# Altium schematic symbol library PCB_Project1.SCHLIB: 10 symbols
Pins are listed as number, name and electrical type; pins without a type are passive.

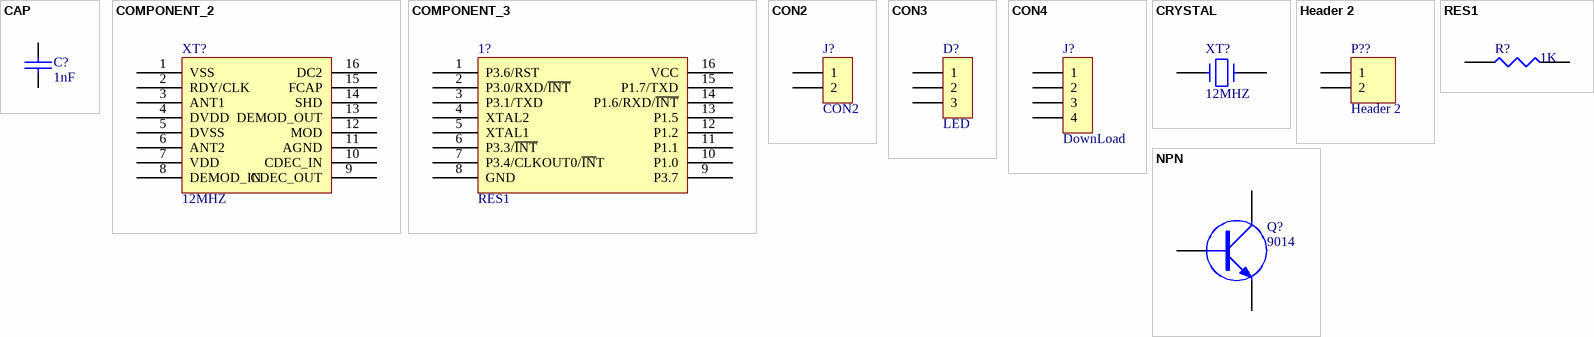
[diagram p0: symbols CAP to RES1]

## CAP
designator C?, comment 1nF
Capacitor
footprint 6-0805[2012]
footprint 0805[2012]
footprint 2012[0805]
pins: 1, 2

## COMPONENT_2
designator XT?, comment 12MHZ
footprint 6-0805[2012]
footprint SOIC16 (Small Outline; 16 Leads; Body Width 3.9 mm; Pitch 1.27 mm)
pins: 1 VSS, 2 RDY/CLK, 3 ANT1, 4 DVDD, 5 DVSS, 6 ANT2, 7 VDD, 8 DEMOD_IN, 9 CDEC_OUT, 10 CDEC_IN, 11 AGND, 12 MOD, 13 DEMOD_OUT, 14 SHD, 15 FCAP, 16 DC2

## COMPONENT_3
designator 1?, comment RES1
footprint 6-0805[2012]
footprint DIP-16 (DIP; 16 Leads; Row Spacing 7.62 mm; Pitch 2.54 mm)
pins: 1 P3.6/RST, 2 P3.0/RXD/~{INT}, 3 P3.1/TXD, 4 XTAL2, 5 XTAL1, 6 P3.3/~{INT}, 7 P3.4/CLKOUT0/~{IN}T, 8 GND, 9 P3.7, 10 P1.0, 11 P1.1, 12 P1.2, 13 P1.5, 14 P1.6/RXD/~{INT}, 15 P1.7/TXD, 16 VCC

## CON2
designator J?
Connector
footprint 6-0805[2012]
footprint 0805[2012]
footprint 2012[0805]
footprint HDR1X2 (Connector; Header; 2 Position)
pins: 1, 2

## CON3
designator D?, comment LED
Connector
footprint 6-0805[2012]
footprint HDR1X3 (Connector; Header; 3 Position)
pins: 1, 2, 3

## CON4
designator J?, comment DownLoad
Connector
footprint 6-0805[2012]
footprint HDR1X4 (Connector; Header; 4 Position)
pins: 1, 2, 3, 4

## CRYSTAL
designator XT?, comment 12MHZ
Crystal
footprint 6-0805[2012]
footprint JZ
pins: 1, 2

## Header 2
designator P??
Header, 2-Pin; LatestRevisionDate: 17-Jul-2002; LatestRevisionNote: Re-released for DXP Platform.; Publisher: Altium Limited
footprint HDR1X2 (Connector; Header; 2 Position)
signal-integrity model Connector
footprint 6-0805[2012]
footprint HDR1X2 (Connector; Header; 2 Position)
pins: 1, 2

## NPN
designator Q?, comment 9014
NPN Transistor
footprint 6-0805[2012]
footprint TO-92 (TO, Flat Index; 3 In-Line, Axial Leads; Body Dia. 4.6mm; Leads 0.41 x 0.39 mm (max))
pins: 1 B, 2 C, 3 E

## RES1
designator R?, comment 1K
footprint 6-0805[2012]
footprint 0805[2012]
footprint 2012[0805]
pins: 1, 2